# Altium footprint library TE 173864.PcbLib: 1 footprints
Each footprint in its own frame and in the unit in brackets; x right, y up, seen from the top. Pads: shape width x height; smd on the part's side, far side on the other; paste and mask are expansions set on the pad; w line width, h text height; cw(c..) or ccw(c..) is an arc to the next point about the centre after c.
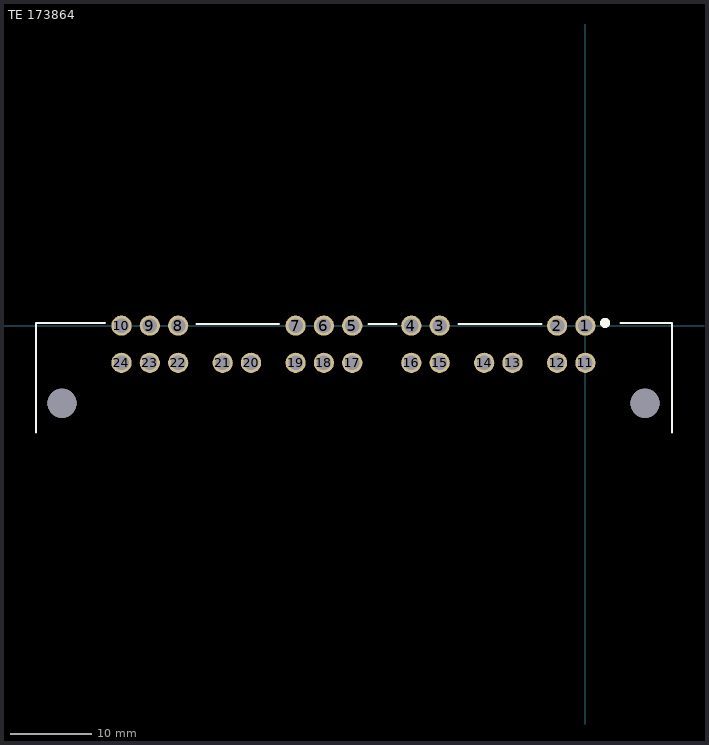
[diagram p0: the footprint, top view; thin cyan lines are the x and y axes]

## TE 173864 [mm]
pads (26):
  round 2.5 hole 1.8: 1(0,0) 2(-3.5,0) 3(-18,0) 4(-21.5,0) 5(-28.8,0) 6(-32.3,0) 7(-35.8,0) 8(-50.3,0) 9(-53.8,0) 10(-57.3,0) 11(0,-4.6) 12(-3.5,-4.6) 13(-9,-4.6) 14(-12.5,-4.6) 15(-18,-4.6) 16(-21.5,-4.6) 17(-28.8,-4.6) 18(-32.3,-4.6) 19(-35.8,-4.6) 20(-41.3,-4.6) 21(-44.8,-4.6) 22(-50.3,-4.6) 23(-53.8,-4.6) 24(-57.3,-4.6)
  round 3.6 hole 3.6: ""(-64.65,-9.6) ""(7.35,-9.6)
Top Overlay:
  lines w0.254: -67.881,-13.214 -67.881,0.319 -59.309,0.319 ; -48.057,0.203 -37.821,0.203 ; -26.772,0.203 -23.317,0.203 ; -15.672,0.203 -5.436,0.203 ; 4.343,0.319 10.719,0.319 10.719,-13.214
  lines w1: 2.515,0.432 ccw(c2.435,0.333) 2.555,0.376
3D body "c-0173864-01-e-3d.stp": height 15.95, standoff -4, extent -67.951,-24.59 10.649,0.33